# Altium footprint library Hillcrest Laboratories.PcbLib: 1 footprints
Each footprint in its own frame and in the unit in brackets; x right, y up, seen from the top. Pads: shape width x height; smd on the part's side, far side on the other; paste and mask are expansions set on the pad; w line width, h text height; cw(c..) or ccw(c..) is an arc to the next point about the centre after c.
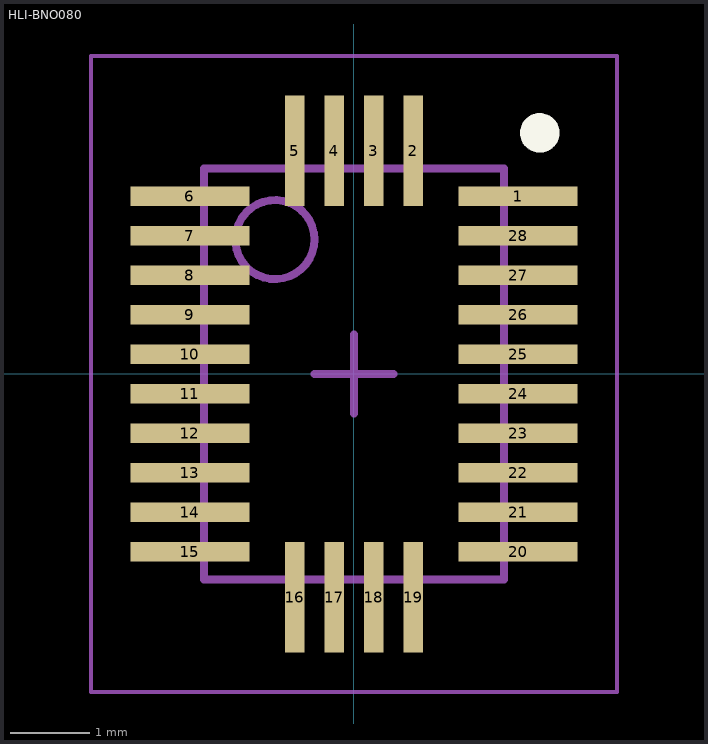
[diagram p0: the footprint, top view; thin cyan lines are the x and y axes]

## HLI-BNO080 [mm] "QFN, 28-Leads, Body 3.80x5.20mm, Pitch 0.50mm, IPC Low Density"
height 1.18
pads (28):
  rect 1.5x0.25 smd: 1(2.075,2.25) 6(-2.075,2.25) 7(-2.075,1.75) 8(-2.075,1.25) 9(-2.075,0.75) 10(-2.075,0.25) 11(-2.075,-0.25) 12(-2.075,-0.75) 13(-2.075,-1.25) 14(-2.075,-1.75) 15(-2.075,-2.25) 20(2.075,-2.25) 21(2.075,-1.75) 22(2.075,-1.25) 23(2.075,-0.75) 24(2.075,-0.25) 25(2.075,0.25) 26(2.075,0.75) 27(2.075,1.25) 28(2.075,1.75)
  rect 0.25x1.4 smd: 2(0.75,2.825) 3(0.25,2.825) 4(-0.25,2.825) 5(-0.75,2.825) 16(-0.75,-2.825) 17(-0.25,-2.825) 18(0.25,-2.825) 19(0.75,-2.825)
Top Overlay:
  circle w0.25: c2.35,3.05 r0.125
Mechanical 13:
  circle w0.1: c-1,1.7 r0.5
  lines w0.1: -1.9,-2.6 -1.9,2.6 1.9,2.6 1.9,-2.6 -1.9,-2.6
Mechanical 15:
  lines w0.05: -3.325,-4.025 -3.325,4.025 3.325,4.025 3.325,-4.025 -3.325,-4.025
  lines w0.1: -0.5,0 0.5,0 ; 0,-0.5 0,0.5
3D body "HLI-BNO080.step": height 1.18, standoff 0, extent -2,-2.7 2,2.7